# Altium schematic symbol library WE-XTAL.SchLib: 324 symbols (part 5 of 6)
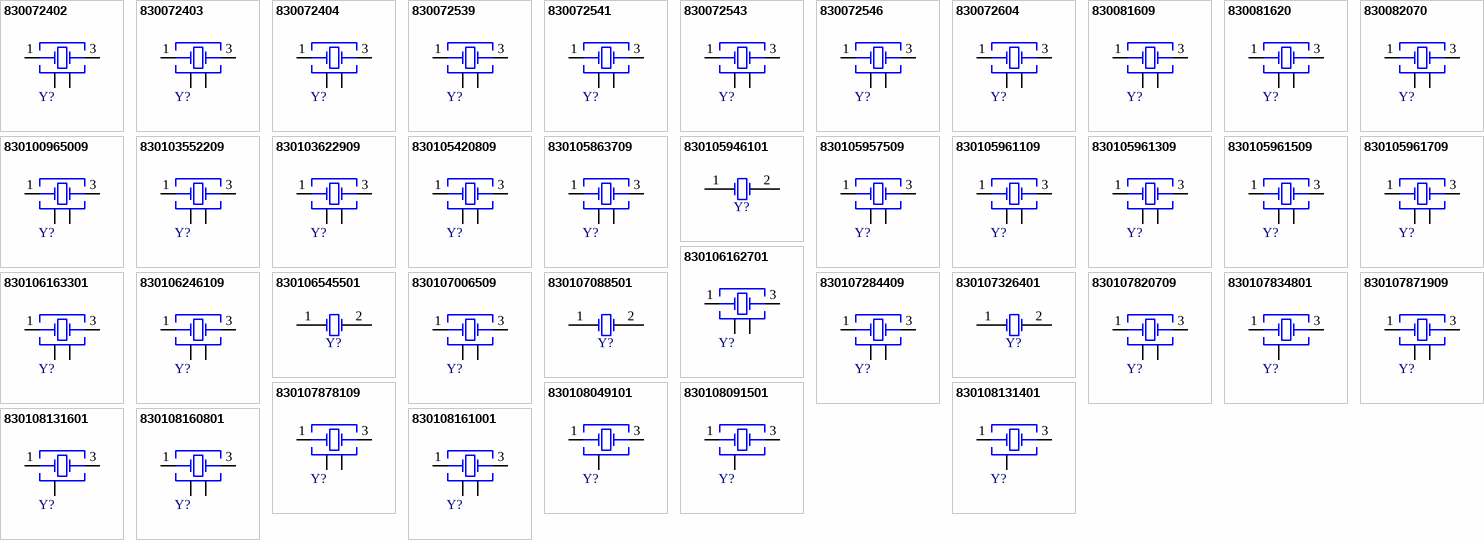
[diagram p12: symbols 830072402 to 830108161001]

## 830072539
designator Y?, comment 24MHz  (value not drawn)
WE-XTAL Quartz Crystal, SMT, IQXC-26, 24MHz, +/-15ppm; Manufacturer Part Number: 830072539; Manufacturer: Wurth Elektronik; Load Capacitance: 8pF; ComponentLink1Description: Website Link; ComponentLink1URL: https://www.we-online.com/redexpert/article/830072539?ad; ComponentLink2Description: Datasheet Link; ComponentLink2URL: https://www.we-online.com/redexpert/spec/830072539?ad; Category: Crystals; Match Code: WE-XTAL; Mount: Surface Mount; Operating Temperature Max: 70°C; Operating Temperature Min: -20°C; Packaging: Tape and Reel; Case/Size Code: IQXC-26; Length: 1.6mm; Width: 1.2mm; Height: 0.4mm; Frequency: 24MHz; Frequency Stability: +/-15ppm; Frequency Tolerance: +/-15ppm
footprint WE-XTAL_IQXC-26
pins: 1 Crystal, 2 GND & Lid, 3 Crystal, 4 GND & Lid

## 830072541
designator Y?, comment 27MHz  (value not drawn)
WE-XTAL Quartz Crystal, SMT, IQXC-26, 27MHz, +/-15ppm; Manufacturer Part Number: 830072541; Manufacturer: Wurth Elektronik; Load Capacitance: 8pF; ComponentLink1Description: Website Link; ComponentLink1URL: https://www.we-online.com/redexpert/article/830072541?ad; ComponentLink2Description: Datasheet Link; ComponentLink2URL: https://www.we-online.com/redexpert/spec/830072541?ad; Category: Crystals; Match Code: WE-XTAL; Mount: Surface Mount; Operating Temperature Max: 70°C; Operating Temperature Min: -20°C; Packaging: Tape and Reel; Case/Size Code: IQXC-26; Length: 1.6mm; Width: 1.2mm; Height: 0.4mm; Frequency: 27MHz; Frequency Stability: +/-15ppm; Frequency Tolerance: +/-15ppm
footprint WE-XTAL_IQXC-26
pins: 1 Crystal, 2 GND & Lid, 3 Crystal, 4 GND & Lid

## 830072543
designator Y?, comment 27MHz  (value not drawn)
WE-XTAL Quartz Crystal, SMT, IQXC-42, 27MHz, +/-15ppm; Manufacturer Part Number: 830072543; Manufacturer: Wurth Elektronik; Frequency Stability: +/-20ppm; Load Capacitance: 10pF; ComponentLink1Description: Website Link; ComponentLink1URL: https://www.we-online.com/redexpert/article/830072543?ad; ComponentLink2Description: Datasheet Link; ComponentLink2URL: https://www.we-online.com/redexpert/spec/830072543?ad; Category: Crystals; Match Code: WE-XTAL; Mount: Surface Mount; Operating Temperature Max: 85°C; Operating Temperature Min: -40°C; Packaging: Tape and Reel; Case/Size Code: IQXC-42; Length: 2mm; Width: 1.6mm; Height: 0.5mm; Frequency: 27MHz; Frequency Tolerance: +/-15ppm
footprint WE-XTAL_IQXC-42
pins: 1 Crystal, 2 GND, 3 Crystal, 4 GND

## 830072546
designator Y?, comment 48MHz  (value not drawn)
WE-XTAL Quartz Crystal, SMT, IQXC-42, 48MHz, +/-15ppm; Manufacturer Part Number: 830072546; Manufacturer: Wurth Elektronik; Frequency Stability: +/-20ppm; Load Capacitance: 10pF; ComponentLink1Description: Website Link; ComponentLink1URL: https://www.we-online.com/redexpert/article/830072546?ad; ComponentLink2Description: Datasheet Link; ComponentLink2URL: https://www.we-online.com/redexpert/spec/830072546?ad; Category: Crystals; Match Code: WE-XTAL; Mount: Surface Mount; Operating Temperature Max: 85°C; Operating Temperature Min: -40°C; Packaging: Tape and Reel; Case/Size Code: IQXC-42; Length: 2mm; Width: 1.6mm; Height: 0.5mm; Frequency: 48MHz; Frequency Tolerance: +/-15ppm
footprint WE-XTAL_IQXC-42
pins: 1 Crystal, 2 GND, 3 Crystal, 4 GND

## 830072604
designator Y?, comment 25MHz  (value not drawn)
WE-XTAL Quartz Crystal, SMT, CFPX-180, 25MHz, +/-10ppm; Manufacturer Part Number: 830072604; Manufacturer: Wurth Elektronik; Frequency Stability: +/-20ppm; Load Capacitance: 8pF; ComponentLink1Description: Website Link; ComponentLink1URL: https://www.we-online.com/redexpert/article/830072604?ad; ComponentLink2Description: Datasheet Link; ComponentLink2URL: https://www.we-online.com/redexpert/spec/830072604?ad; Category: Crystals; Match Code: WE-XTAL; Mount: Surface Mount; Operating Temperature Max: 85°C; Operating Temperature Min: -40°C; Packaging: Tape and Reel; Case/Size Code: CFPX-180; Length: 3.4mm; Width: 2.7mm; Height: 0.8mm; Frequency: 25MHz; Frequency Tolerance: +/-10ppm
footprint WE-XTAL_CFPX-180
pins: 1 Crystal, 2 GND&Lid, 3 Crystal, 4 GND&Lid

## 830081609
designator Y?, comment 25MHz  (value not drawn)
WE-XTAL Quartz Crystal, SMT, IQXC-26, 25MHz, +/-10ppm; Manufacturer Part Number: 830081609; Manufacturer: Wurth Elektronik; Frequency Stability: +/-20ppm; Load Capacitance: 8pF; ComponentLink1Description: Website Link; ComponentLink1URL: https://www.we-online.com/redexpert/article/830081609?ad; ComponentLink2Description: Datasheet Link; ComponentLink2URL: https://www.we-online.com/redexpert/spec/830081609?ad; Category: Crystals; Match Code: WE-XTAL; Mount: Surface Mount; Operating Temperature Max: 85°C; Operating Temperature Min: -40°C; Packaging: Tape and Reel; Case/Size Code: IQXC-26; Length: 1.6mm; Width: 1.2mm; Height: 0.4mm; Frequency: 25MHz; Frequency Tolerance: +/-10ppm
footprint WE-XTAL_IQXC-26
pins: 1 Crystal, 2 GND & Lid, 3 Crystal, 4 GND & Lid

## 830081620
designator Y?, comment 48MHz  (value not drawn)
WE-XTAL Quartz Crystal, SMT, IQXC-26, 48MHz, +/-10ppm; Manufacturer Part Number: 830081620; Manufacturer: Wurth Elektronik; Frequency Stability: +/-20ppm; Load Capacitance: 8pF; ComponentLink1Description: Website Link; ComponentLink1URL: https://www.we-online.com/redexpert/article/830081620?ad; ComponentLink2Description: Datasheet Link; ComponentLink2URL: https://www.we-online.com/redexpert/spec/830081620?ad; Category: Crystals; Match Code: WE-XTAL; Mount: Surface Mount; Operating Temperature Max: 85°C; Operating Temperature Min: -40°C; Packaging: Tape and Reel; Case/Size Code: IQXC-26; Length: 1.6mm; Width: 1.2mm; Height: 0.4mm; Frequency: 48MHz; Frequency Tolerance: +/-10ppm
footprint WE-XTAL_IQXC-26
pins: 1 Crystal, 2 GND & Lid, 3 Crystal, 4 GND & Lid

## 830082070
designator Y?, comment 13.56MHz  (value not drawn)
WE-XTAL Quartz Crystal, SMT, CFPX-180, 13.56MHz, +/-10ppm; Manufacturer Part Number: 830082070; Manufacturer: Wurth Elektronik; Frequency Stability: +/-20ppm; Load Capacitance: 8pF; ComponentLink1Description: Website Link; ComponentLink1URL: https://www.we-online.com/redexpert/article/830082070?ad; ComponentLink2Description: Datasheet Link; ComponentLink2URL: https://www.we-online.com/redexpert/spec/830082070?ad; Category: Crystals; Match Code: WE-XTAL; Mount: Surface Mount; Operating Temperature Max: 85°C; Operating Temperature Min: -40°C; Packaging: Tape and Reel; Case/Size Code: CFPX-180; Length: 3.4mm; Width: 2.7mm; Height: 0.8mm; Frequency: 13.56MHz; Frequency Tolerance: +/-10ppm
footprint WE-XTAL_CFPX-180
pins: 1 Crystal, 2 GND&Lid, 3 Crystal, 4 GND&Lid

## 830100965009
designator Y?, comment 16MHz  (value not drawn)
WE-XTAL Quartz Crystal, SMT, CFPX-180, 16MHz, +/-10ppm; Manufacturer Part Number: 830100965009; Manufacturer: Wurth Elektronik; Frequency Stability: +/-20ppm; Load Capacitance: 16pF; ComponentLink1Description: Website Link; ComponentLink1URL: https://www.we-online.com/redexpert/article/830100965009?ad; ComponentLink2Description: Datasheet Link; ComponentLink2URL: https://www.we-online.com/redexpert/spec/830100965009?ad; Category: Crystals; Match Code: WE-XTAL; Mount: Surface Mount; Operating Temperature Max: 85°C; Operating Temperature Min: -40°C; Packaging: Tape and Reel; Case/Size Code: CFPX-180; Length: 3.4mm; Width: 2.7mm; Height: 0.8mm; Frequency: 16MHz; Frequency Tolerance: +/-10ppm
footprint WE-XTAL_CFPX-180
pins: 1 Crystal, 2 GND&Lid, 3 Crystal, 4 GND&Lid

## 830103552209
designator Y?, comment 32MHz  (value not drawn)
WE-XTAL Quartz Crystal, SMT, CFPX-180, 32MHz, +/-10ppm; Manufacturer Part Number: 830103552209; Manufacturer: Wurth Elektronik; Frequency Stability: +/-20ppm; Load Capacitance: 9pF; ComponentLink1Description: Website Link; ComponentLink1URL: https://www.we-online.com/redexpert/article/830103552209?ad; ComponentLink2Description: Datasheet Link; ComponentLink2URL: https://www.we-online.com/redexpert/spec/830103552209?ad; Category: Crystals; Match Code: WE-XTAL; Mount: Surface Mount; Operating Temperature Max: 85°C; Operating Temperature Min: -40°C; Packaging: Tape and Reel; Case/Size Code: CFPX-180; Length: 3.4mm; Width: 2.7mm; Height: 0.8mm; Frequency: 32MHz; Frequency Tolerance: +/-10ppm
footprint WE-XTAL_CFPX-180
pins: 1 Crystal, 2 GND&Lid, 3 Crystal, 4 GND&Lid

## 830103622909
designator Y?, comment 32MHz  (value not drawn)
WE-XTAL Quartz Crystal, SMT, CFPX-180, 32MHz, +/-10ppm; Manufacturer Part Number: 830103622909; Manufacturer: Wurth Elektronik; Frequency Stability: +/-15ppm; Load Capacitance: 9pF; ComponentLink1Description: Website Link; ComponentLink1URL: https://www.we-online.com/redexpert/article/830103622909?ad; ComponentLink2Description: Datasheet Link; ComponentLink2URL: https://www.we-online.com/redexpert/spec/830103622909?ad; Category: Crystals; Match Code: WE-XTAL; Mount: Surface Mount; Operating Temperature Max: 85°C; Operating Temperature Min: -40°C; Packaging: Tape and Reel; Case/Size Code: CFPX-180; Length: 3.4mm; Width: 2.7mm; Height: 0.8mm; Frequency: 32MHz; Frequency Tolerance: +/-10ppm
footprint WE-XTAL_CFPX-180
pins: 1 Crystal, 2 GND&Lid, 3 Crystal, 4 GND&Lid

## 830105420809
designator Y?, comment 12MHz  (value not drawn)
WE-XTAL Quartz Crystal, SMT, CFPX-180, 12MHz, +/-10ppm; Manufacturer Part Number: 830105420809; Manufacturer: Wurth Elektronik; Load Capacitance: 10pF; ComponentLink1Description: Website Link; ComponentLink1URL: https://www.we-online.com/redexpert/article/830105420809?ad; ComponentLink2Description: Datasheet Link; ComponentLink2URL: https://www.we-online.com/redexpert/spec/830105420809?ad; Category: Crystals; Match Code: WE-XTAL; Mount: Surface Mount; Operating Temperature Max: 70°C; Operating Temperature Min: -20°C; Packaging: Tape and Reel; Case/Size Code: CFPX-180; Length: 3.4mm; Width: 2.7mm; Height: 0.8mm; Frequency: 12MHz; Frequency Stability: +/-10ppm; Frequency Tolerance: +/-10ppm
footprint WE-XTAL_CFPX-180
pins: 1 Crystal, 2 GND&Lid, 3 Crystal, 4 GND&Lid

## 830105863709
designator Y?, comment 25MHz  (value not drawn)
WE-XTAL Quartz Crystal, SMT, CFPX-180, 25MHz, +/-30ppm; Manufacturer Part Number: 830105863709; Manufacturer: Wurth Elektronik; Load Capacitance: 12pF; ComponentLink1Description: Website Link; ComponentLink1URL: https://www.we-online.com/redexpert/article/830105863709?ad; ComponentLink2Description: Datasheet Link; ComponentLink2URL: https://www.we-online.com/redexpert/spec/830105863709?ad; Category: Crystals; Match Code: WE-XTAL; Mount: Surface Mount; Operating Temperature Max: 85°C; Operating Temperature Min: -40°C; Packaging: Tape and Reel; Case/Size Code: CFPX-180; Length: 3.4mm; Width: 2.7mm; Height: 0.8mm; Frequency: 25MHz; Frequency Stability: +/-30ppm; Frequency Tolerance: +/-30ppm
footprint WE-XTAL_CFPX-180
pins: 1 Crystal, 2 GND&Lid, 3 Crystal, 4 GND&Lid

## 830105946101
designator Y?, comment 32.768kHz  (value not drawn)
WE-XTAL Watch Crystal, SMT, IQXC-25, 32.768kHz, +/-20ppm; Manufacturer Part Number: 830105946101; Manufacturer: Wurth Elektronik; Load Capacitance: 7pF; ComponentLink1Description: Website Link; ComponentLink1URL: https://www.we-online.com/redexpert/article/830105946101?ad; ComponentLink2Description: Datasheet Link; ComponentLink2URL: https://www.we-online.com/redexpert/spec/830105946101?ad; Category: Crystals; Match Code: WE-XTAL; Mount: Surface Mount; Operating Temperature Max: 85°C; Operating Temperature Min: -40°C; Packaging: Tape and Reel; Case/Size Code: IQXC-25; Length: 2mm; Width: 1.2mm; Height: 0.6mm; Frequency: 32.768kHz; Frequency Tolerance: +/-20ppm
footprint WE-XTAL_IQXC-25
pins: 1 OSC1, 2 OSC2

## 830105957509
designator Y?, comment 24.576MHz  (value not drawn)
WE-XTAL Quartz Crystal, SMT, CFPX-180, 24.576MHz, +/-20ppm; Manufacturer Part Number: 830105957509; Manufacturer: Wurth Elektronik; Frequency Stability: +/-30ppm; Load Capacitance: 18pF; ComponentLink1Description: Website Link; ComponentLink1URL: https://www.we-online.com/redexpert/article/830105957509?ad; ComponentLink2Description: Datasheet Link; ComponentLink2URL: https://www.we-online.com/redexpert/spec/830105957509?ad; Category: Crystals; Match Code: WE-XTAL; Mount: Surface Mount; Operating Temperature Max: 85°C; Operating Temperature Min: -40°C; Packaging: Tape and Reel; Case/Size Code: CFPX-180; Length: 3.4mm; Width: 2.7mm; Height: 0.8mm; Frequency: 24.576MHz; Frequency Tolerance: +/-20ppm
footprint WE-XTAL_CFPX-180
pins: 1 Crystal, 2 GND&Lid, 3 Crystal, 4 GND&Lid

## 830105961109
designator Y?, comment 13.56MHz  (value not drawn)
WE-XTAL Quartz Crystal, SMT, CFPX-180, 13.56MHz, +/-20ppm; Manufacturer Part Number: 830105961109; Manufacturer: Wurth Elektronik; Frequency Stability: +/-30ppm; Load Capacitance: 18pF; ComponentLink1Description: Website Link; ComponentLink1URL: https://www.we-online.com/redexpert/article/830105961109?ad; ComponentLink2Description: Datasheet Link; ComponentLink2URL: https://www.we-online.com/redexpert/spec/830105961109?ad; Category: Crystals; Match Code: WE-XTAL; Mount: Surface Mount; Operating Temperature Max: 85°C; Operating Temperature Min: -40°C; Packaging: Tape and Reel; Case/Size Code: CFPX-180; Length: 3.4mm; Width: 2.7mm; Height: 0.8mm; Frequency: 13.56MHz; Frequency Tolerance: +/-20ppm
footprint WE-XTAL_CFPX-180
pins: 1 Crystal, 2 GND&Lid, 3 Crystal, 4 GND&Lid

## 830105961309
designator Y?, comment 14.31818MHz  (value not drawn)
WE-XTAL Quartz Crystal, SMT, CFPX-180, 14.31818MHz, +/-20ppm; Manufacturer Part Number: 830105961309; Manufacturer: Wurth Elektronik; Frequency Stability: +/-30ppm; Load Capacitance: 18pF; ComponentLink1Description: Website Link; ComponentLink1URL: https://www.we-online.com/redexpert/article/830105961309?ad; ComponentLink2Description: Datasheet Link; ComponentLink2URL: https://www.we-online.com/redexpert/spec/830105961309?ad; Category: Crystals; Match Code: WE-XTAL; Mount: Surface Mount; Operating Temperature Max: 85°C; Operating Temperature Min: -40°C; Packaging: Tape and Reel; Case/Size Code: CFPX-180; Length: 3.4mm; Width: 2.7mm; Height: 0.8mm; Frequency: 14.31818MHz; Frequency Tolerance: +/-20ppm
footprint WE-XTAL_CFPX-180
pins: 1 Crystal, 2 GND&Lid, 3 Crystal, 4 GND&Lid

## 830105961509
designator Y?, comment 16.384MHz  (value not drawn)
WE-XTAL Quartz Crystal, SMT, CFPX-180, 16.384MHz, +/-20ppm; Manufacturer Part Number: 830105961509; Manufacturer: Wurth Elektronik; Frequency Stability: +/-30ppm; Load Capacitance: 18pF; ComponentLink1Description: Website Link; ComponentLink1URL: https://www.we-online.com/redexpert/article/830105961509?ad; ComponentLink2Description: Datasheet Link; ComponentLink2URL: https://www.we-online.com/redexpert/spec/830105961509?ad; Category: Crystals; Match Code: WE-XTAL; Mount: Surface Mount; Operating Temperature Max: 85°C; Operating Temperature Min: -40°C; Packaging: Tape and Reel; Case/Size Code: CFPX-180; Length: 3.4mm; Width: 2.7mm; Height: 0.8mm; Frequency: 16.384MHz; Frequency Tolerance: +/-20ppm
footprint WE-XTAL_CFPX-180
pins: 1 Crystal, 2 GND&Lid, 3 Crystal, 4 GND&Lid

## 830105961709
designator Y?, comment 18.432MHz  (value not drawn)
WE-XTAL Quartz Crystal, SMT, CFPX-180, 18.432MHz, +/-20ppm; Manufacturer Part Number: 830105961709; Manufacturer: Wurth Elektronik; Frequency Stability: +/-30ppm; Load Capacitance: 18pF; ComponentLink1Description: Website Link; ComponentLink1URL: https://www.we-online.com/redexpert/article/830105961709?ad; ComponentLink2Description: Datasheet Link; ComponentLink2URL: https://www.we-online.com/redexpert/spec/830105961709?ad; Category: Crystals; Match Code: WE-XTAL; Mount: Surface Mount; Operating Temperature Max: 85°C; Operating Temperature Min: -40°C; Packaging: Tape and Reel; Case/Size Code: CFPX-180; Length: 3.4mm; Width: 2.7mm; Height: 0.8mm; Frequency: 18.432MHz; Frequency Tolerance: +/-20ppm
footprint WE-XTAL_CFPX-180
pins: 1 Crystal, 2 GND&Lid, 3 Crystal, 4 GND&Lid

## 830106162701
designator Y?, comment 8MHz  (value not drawn)
WE-XTAL Quartz Crystal, SMT, CFPX-104, 8MHz, +/-20ppm; Manufacturer Part Number: 830106162701; Manufacturer: Wurth Elektronik; Frequency Stability: +/-30ppm; Load Capacitance: 16pF; ComponentLink1Description: Website Link; ComponentLink1URL: https://www.we-online.com/redexpert/article/830106162701?ad; ComponentLink2Description: Datasheet Link; ComponentLink2URL: https://www.we-online.com/redexpert/spec/830106162701?ad; Category: Crystals; Match Code: WE-XTAL; Mount: Surface Mount; Operating Temperature Max: 85°C; Operating Temperature Min: -40°C; Packaging: Tape and Reel; Case/Size Code: CFPX-104; Length: 5mm; Width: 3.2mm; Height: 1mm; Frequency: 8MHz; Frequency Tolerance: +/-20ppm
footprint WE-XTAL_CFPX-104
pins: 1 Crystal, 2 GND & Lid, 3 Crystal, 4 GND & Lid

## 830106163301
designator Y?, comment 13.56MHz  (value not drawn)
WE-XTAL Quartz Crystal, SMT, CFPX-104, 13.56MHz, +/-20ppm; Manufacturer Part Number: 830106163301; Manufacturer: Wurth Elektronik; Frequency Stability: +/-30ppm; Load Capacitance: 16pF; ComponentLink1Description: Website Link; ComponentLink1URL: https://www.we-online.com/redexpert/article/830106163301?ad; ComponentLink2Description: Datasheet Link; ComponentLink2URL: https://www.we-online.com/redexpert/spec/830106163301?ad; Category: Crystals; Match Code: WE-XTAL; Mount: Surface Mount; Operating Temperature Max: 85°C; Operating Temperature Min: -40°C; Packaging: Tape and Reel; Case/Size Code: CFPX-104; Length: 5mm; Width: 3.2mm; Height: 1mm; Frequency: 13.56MHz; Frequency Tolerance: +/-20ppm
footprint WE-XTAL_CFPX-104
pins: 1 Crystal, 2 GND & Lid, 3 Crystal, 4 GND & Lid

## 830106246109
designator Y?, comment 27.12MHz  (value not drawn)
WE-XTAL Quartz Crystal, SMT, CFPX-180, 27.12MHz, +/-10ppm; Manufacturer Part Number: 830106246109; Manufacturer: Wurth Elektronik; Frequency Stability: +/-20ppm; Load Capacitance: 10pF; ComponentLink1Description: Website Link; ComponentLink1URL: https://www.we-online.com/redexpert/article/830106246109?ad; ComponentLink2Description: Datasheet Link; ComponentLink2URL: https://www.we-online.com/redexpert/spec/830106246109?ad; Category: Crystals; Match Code: WE-XTAL; Mount: Surface Mount; Operating Temperature Max: 85°C; Operating Temperature Min: -40°C; Packaging: Tape and Reel; Case/Size Code: CFPX-180; Length: 3.4mm; Width: 2.7mm; Height: 0.8mm; Frequency: 27.12MHz; Frequency Tolerance: +/-10ppm
footprint WE-XTAL_CFPX-180
pins: 1 Crystal, 2 GND&Lid, 3 Crystal, 4 GND&Lid

## 830106545501
designator Y?, comment 32.768kHz  (value not drawn)
WE-XTAL Watch Crystal, SMT, IQXC-25, 32.768kHz, +/-20ppm; Manufacturer Part Number: 830106545501; Manufacturer: Wurth Elektronik; Load Capacitance: 6pF; ComponentLink1Description: Website Link; ComponentLink1URL: https://www.we-online.com/redexpert/article/830106545501?ad; ComponentLink2Description: Datasheet Link; ComponentLink2URL: https://www.we-online.com/redexpert/spec/830106545501?ad; Category: Crystals; Match Code: WE-XTAL; Mount: Surface Mount; Operating Temperature Max: 85°C; Operating Temperature Min: -40°C; Packaging: Tape and Reel; Case/Size Code: IQXC-25; Length: 2mm; Width: 1.2mm; Height: 0.6mm; Frequency: 32.768kHz; Frequency Tolerance: +/-20ppm
footprint WE-XTAL_IQXC-25
pins: 1 OSC1, 2 OSC2

## 830107006509
designator Y?, comment 24MHz  (value not drawn)
WE-XTAL Quartz Crystal, SMT, CFPX-180, 24MHz, +/-10ppm; Manufacturer Part Number: 830107006509; Manufacturer: Wurth Elektronik; Frequency Stability: +/-15ppm; Load Capacitance: 9pF; ComponentLink1Description: Website Link; ComponentLink1URL: https://www.we-online.com/redexpert/article/830107006509?ad; ComponentLink2Description: Datasheet Link; ComponentLink2URL: https://www.we-online.com/redexpert/spec/830107006509?ad; Category: Crystals; Match Code: WE-XTAL; Mount: Surface Mount; Operating Temperature Max: 85°C; Operating Temperature Min: -40°C; Packaging: Tape and Reel; Case/Size Code: CFPX-180; Length: 3.4mm; Width: 2.7mm; Height: 0.8mm; Frequency: 24MHz; Frequency Tolerance: +/-10ppm
footprint WE-XTAL_CFPX-180
pins: 1 Crystal, 2 GND&Lid, 3 Crystal, 4 GND&Lid

## 830107088501
designator Y?, comment 32.768kHz  (value not drawn)
WE-XTAL Watch Crystal, SMT, IQXC-90, 32.768kHz, +/-20ppm; Manufacturer Part Number: 830107088501; Manufacturer: Wurth Elektronik; Load Capacitance: 6pF; ComponentLink1Description: Website Link; ComponentLink1URL: https://www.we-online.com/redexpert/article/830107088501?ad; ComponentLink2Description: Datasheet Link; ComponentLink2URL: https://www.we-online.com/redexpert/spec/830107088501?ad; Category: Crystals; Match Code: WE-XTAL; Mount: Surface Mount; Operating Temperature Max: 85°C; Operating Temperature Min: -40°C; Packaging: Tape and Reel; Case/Size Code: IQXC-90; Length: 1.6mm; Width: 1mm; Height: 0.5mm; Frequency: 32.768kHz; Frequency Tolerance: +/-20ppm
footprint WE-XTAL_IQXC-90
pins: 1 OSC1, 2 OSC2

## 830107284409
designator Y?, comment 30MHz  (value not drawn)
WE-XTAL Quartz Crystal, SMT, CFPX-218, 30MHz, +/-10ppm; Manufacturer Part Number: 830107284409; Manufacturer: Wurth Elektronik; Load Capacitance: 10pF; ComponentLink1Description: Website Link; ComponentLink1URL: https://www.we-online.com/redexpert/article/830107284409?ad; ComponentLink2Description: Datasheet Link; ComponentLink2URL: https://www.we-online.com/redexpert/spec/830107284409?ad; Category: Crystals; Match Code: WE-XTAL; Mount: Surface Mount; Operating Temperature Max: 70°C; Operating Temperature Min: -20°C; Packaging: Tape and Reel; Case/Size Code: CFPX-218; Length: 2.5mm; Width: 2mm; Height: 0.6mm; Frequency: 30MHz; Frequency Stability: +/-10ppm; Frequency Tolerance: +/-10ppm
footprint WE-XTAL_CFPX-218
pins: 1 Crystal, 2 GND, 3 Crystal, 4 GND

## 830107326401
designator Y?, comment 32.768kHz  (value not drawn)
WE-XTAL Watch Crystal, SMT, IQXC-25, 32.768kHz, +/-20ppm; Manufacturer Part Number: 830107326401; Manufacturer: Wurth Elektronik; Load Capacitance: 4pF; ComponentLink1Description: Website Link; ComponentLink1URL: https://www.we-online.com/redexpert/article/830107326401?ad; ComponentLink2Description: Datasheet Link; ComponentLink2URL: https://www.we-online.com/redexpert/spec/830107326401?ad; Category: Crystals; Match Code: WE-XTAL; Mount: Surface Mount; Operating Temperature Max: 85°C; Operating Temperature Min: -40°C; Packaging: Tape and Reel; Case/Size Code: IQXC-25; Length: 2mm; Width: 1.2mm; Height: 0.6mm; Frequency: 32.768kHz; Frequency Tolerance: +/-20ppm
footprint WE-XTAL_IQXC-25
pins: 1 OSC1, 2 OSC2

## 830107820709
designator Y?, comment 32MHz  (value not drawn)
WE-XTAL Quartz Crystal, SMT, CFPX-218, 32MHz, +/-10ppm; Manufacturer Part Number: 830107820709; Manufacturer: Wurth Elektronik; Load Capacitance: 10pF; ComponentLink1Description: Website Link; ComponentLink1URL: https://www.we-online.com/redexpert/article/830107820709?ad; ComponentLink2Description: Datasheet Link; ComponentLink2URL: https://www.we-online.com/redexpert/spec/830107820709?ad; Category: Crystals; Match Code: WE-XTAL; Mount: Surface Mount; Operating Temperature Max: 70°C; Operating Temperature Min: -20°C; Packaging: Tape and Reel; Case/Size Code: CFPX-218; Length: 2.5mm; Width: 2mm; Height: 0.6mm; Frequency: 32MHz; Frequency Stability: +/-10ppm; Frequency Tolerance: +/-10ppm
footprint WE-XTAL_CFPX-218
pins: 1 Crystal, 2 GND, 3 Crystal, 4 GND

## 830107834801
designator Y?, comment 32.768kHz  (value not drawn)
WE-XTAL Watch Crystal, SMT, IQXC-146, 32.768kHz, +/-20ppm; Manufacturer Part Number: 830107834801; Manufacturer: Wurth Elektronik; Load Capacitance: 6pF; ComponentLink1Description: Website Link; ComponentLink1URL: https://www.we-online.com/redexpert/article/830107834801?ad; ComponentLink2Description: Datasheet Link; ComponentLink2URL: https://www.we-online.com/redexpert/spec/830107834801?ad; Category: Crystals; Match Code: WE-XTAL; Mount: Surface Mount; Operating Temperature Max: 85°C; Operating Temperature Min: -40°C; Packaging: Tape and Reel; Case/Size Code: IQXC-146; Length: 1.27mm; Width: 1.05mm; Height: 0.5mm; Frequency: 32.768kHz; Frequency Tolerance: +/-20ppm
footprint WE-XTAL_IQXC-146
pins: 1 Crystal, 2 GND, 3 Crystal

## 830107871909
designator Y?, comment 25MHz  (value not drawn)
WE-XTAL Quartz Crystal, SMT, CFPX-218, 25MHz, +/-10ppm; Manufacturer Part Number: 830107871909; Manufacturer: Wurth Elektronik; Load Capacitance: 10pF; ComponentLink1Description: Website Link; ComponentLink1URL: https://www.we-online.com/redexpert/article/830107871909?ad; ComponentLink2Description: Datasheet Link; ComponentLink2URL: https://www.we-online.com/redexpert/spec/830107871909?ad; Category: Crystals; Match Code: WE-XTAL; Mount: Surface Mount; Operating Temperature Max: 70°C; Operating Temperature Min: -20°C; Packaging: Tape and Reel; Case/Size Code: CFPX-218; Length: 2.5mm; Width: 2mm; Height: 0.6mm; Frequency: 25MHz; Frequency Stability: +/-10ppm; Frequency Tolerance: +/-10ppm
footprint WE-XTAL_CFPX-218
pins: 1 Crystal, 2 GND, 3 Crystal, 4 GND

## 830107878109
designator Y?, comment 16MHz  (value not drawn)
WE-XTAL Quartz Crystal, SMT, CFPX-180, 16MHz, +/-30ppm; Manufacturer Part Number: 830107878109; Manufacturer: Wurth Elektronik; Frequency Stability: +/-50ppm; Load Capacitance: 12pF; ComponentLink1Description: Website Link; ComponentLink1URL: https://www.we-online.com/redexpert/article/830107878109?ad; ComponentLink2Description: Datasheet Link; ComponentLink2URL: https://www.we-online.com/redexpert/spec/830107878109?ad; Category: Crystals; Match Code: WE-XTAL; Mount: Surface Mount; Operating Temperature Max: 125°C; Operating Temperature Min: -40°C; Packaging: Tape and Reel; Case/Size Code: CFPX-180; Length: 3.4mm; Width: 2.7mm; Height: 0.8mm; Frequency: 16MHz; Frequency Tolerance: +/-30ppm
footprint WE-XTAL_CFPX-180
pins: 1 Crystal, 2 GND&Lid, 3 Crystal, 4 GND&Lid

## 830108049101
designator Y?, comment 48MHz  (value not drawn)
WE-XTAL Quartz Crystal, SMT, IQXC-240, 48MHz, +/-10ppm; Manufacturer Part Number: 830108049101; Manufacturer: Wurth Elektronik; Load Capacitance: 8pF; ComponentLink1Description: Website Link; ComponentLink1URL: https://www.we-online.com/redexpert/article/830108049101?ad; ComponentLink2Description: Datasheet Link; ComponentLink2URL: https://www.we-online.com/redexpert/spec/830108049101?ad; Category: Crystals; Match Code: WE-XTAL; Mount: Surface Mount; Operating Temperature Max: 85°C; Operating Temperature Min: -30°C; Packaging: Tape and Reel; Case/Size Code: IQXC-240; Length: 1.2mm; Width: 1mm; Height: 0.33mm; Frequency: 48MHz; Frequency Stability: +/-10ppm; Frequency Tolerance: +/-10ppm
footprint WE-XTAL_IQXC-240
pins: 1 Crystal, 2 GND, 3 Crystal

## 830108091501
designator Y?, comment 32.768kHz  (value not drawn)
WE-XTAL Watch Crystal, SMT, IQXC-146, 32.768kHz, +/-20ppm; Manufacturer Part Number: 830108091501; Manufacturer: Wurth Elektronik; Load Capacitance: 12.5pF; ComponentLink1Description: Website Link; ComponentLink1URL: https://www.we-online.com/redexpert/article/830108091501?ad; ComponentLink2Description: Datasheet Link; ComponentLink2URL: https://www.we-online.com/redexpert/spec/830108091501?ad; Category: Crystals; Match Code: WE-XTAL; Mount: Surface Mount; Operating Temperature Max: 85°C; Operating Temperature Min: -40°C; Packaging: Tape and Reel; Case/Size Code: IQXC-146; Length: 1.27mm; Width: 1.05mm; Height: 0.5mm; Frequency: 32.768kHz; Frequency Tolerance: +/-20ppm
footprint WE-XTAL_IQXC-146
pins: 1 Crystal, 2 GND, 3 Crystal

## 830108131401
designator Y?, comment 37.4MHz  (value not drawn)
WE-XTAL Quartz Crystal, SMT, IQXC-240, 37.4MHz, +/-7ppm; Manufacturer Part Number: 830108131401; Manufacturer: Wurth Elektronik; Frequency Stability: +/-15ppm; Load Capacitance: 5pF; ComponentLink1Description: Website Link; ComponentLink1URL: https://www.we-online.com/redexpert/article/830108131401?ad; ComponentLink2Description: Datasheet Link; ComponentLink2URL: https://www.we-online.com/redexpert/spec/830108131401?ad; Category: Crystals; Match Code: WE-XTAL; Mount: Surface Mount; Operating Temperature Max: 85°C; Operating Temperature Min: -30°C; Packaging: Tape and Reel; Case/Size Code: IQXC-240; Length: 1.2mm; Width: 1mm; Height: 0.33mm; Frequency: 37.4MHz; Frequency Tolerance: +/-7ppm
footprint WE-XTAL_IQXC-240
pins: 1 Crystal, 2 GND, 3 Crystal

## 830108131601
designator Y?, comment 38.4MHz  (value not drawn)
WE-XTAL Quartz Crystal, SMT, IQXC-240, 38.4MHz, +/-7ppm; Manufacturer Part Number: 830108131601; Manufacturer: Wurth Elektronik; Frequency Stability: +/-15ppm; Load Capacitance: 5pF; ComponentLink1Description: Website Link; ComponentLink1URL: https://www.we-online.com/redexpert/article/830108131601?ad; ComponentLink2Description: Datasheet Link; ComponentLink2URL: https://www.we-online.com/redexpert/spec/830108131601?ad; Category: Crystals; Match Code: WE-XTAL; Mount: Surface Mount; Operating Temperature Max: 85°C; Operating Temperature Min: -30°C; Packaging: Tape and Reel; Case/Size Code: IQXC-240; Length: 1.2mm; Width: 1mm; Height: 0.33mm; Frequency: 38.4MHz; Frequency Tolerance: +/-7ppm
footprint WE-XTAL_IQXC-240
pins: 1 Crystal, 2 GND, 3 Crystal

## 830108160801
designator Y?, comment 24MHz  (value not drawn)
WE-XTAL Quartz Crystal, SMT, IQXC-26, 24MHz, +/-10ppm; Manufacturer Part Number: 830108160801; Manufacturer: Wurth Elektronik; Frequency Stability: +/-20ppm; Load Capacitance: 8pF; ComponentLink1Description: Website Link; ComponentLink1URL: https://www.we-online.com/redexpert/article/830108160801?ad; ComponentLink2Description: Datasheet Link; ComponentLink2URL: https://www.we-online.com/redexpert/spec/830108160801?ad; Category: Crystals; Match Code: WE-XTAL; Mount: Surface Mount; Operating Temperature Max: 85°C; Operating Temperature Min: -40°C; Packaging: Tape and Reel; Case/Size Code: IQXC-26; Length: 1.6mm; Width: 1.2mm; Height: 0.4mm; Frequency: 24MHz; Frequency Tolerance: +/-10ppm
footprint WE-XTAL_IQXC-26
pins: 1 Crystal, 2 GND & Lid, 3 Crystal, 4 GND & Lid

## 830108161001
designator Y?, comment 27MHz  (value not drawn)
WE-XTAL Quartz Crystal, SMT, IQXC-26, 27MHz, +/-10ppm; Manufacturer Part Number: 830108161001; Manufacturer: Wurth Elektronik; Frequency Stability: +/-20ppm; Load Capacitance: 8pF; ComponentLink1Description: Website Link; ComponentLink1URL: https://www.we-online.com/redexpert/article/830108161001?ad; ComponentLink2Description: Datasheet Link; ComponentLink2URL: https://www.we-online.com/redexpert/spec/830108161001?ad; Category: Crystals; Match Code: WE-XTAL; Mount: Surface Mount; Operating Temperature Max: 85°C; Operating Temperature Min: -40°C; Packaging: Tape and Reel; Case/Size Code: IQXC-26; Length: 1.6mm; Width: 1.2mm; Height: 0.4mm; Frequency: 27MHz; Frequency Tolerance: +/-10ppm
footprint WE-XTAL_IQXC-26
pins: 1 Crystal, 2 GND & Lid, 3 Crystal, 4 GND & Lid

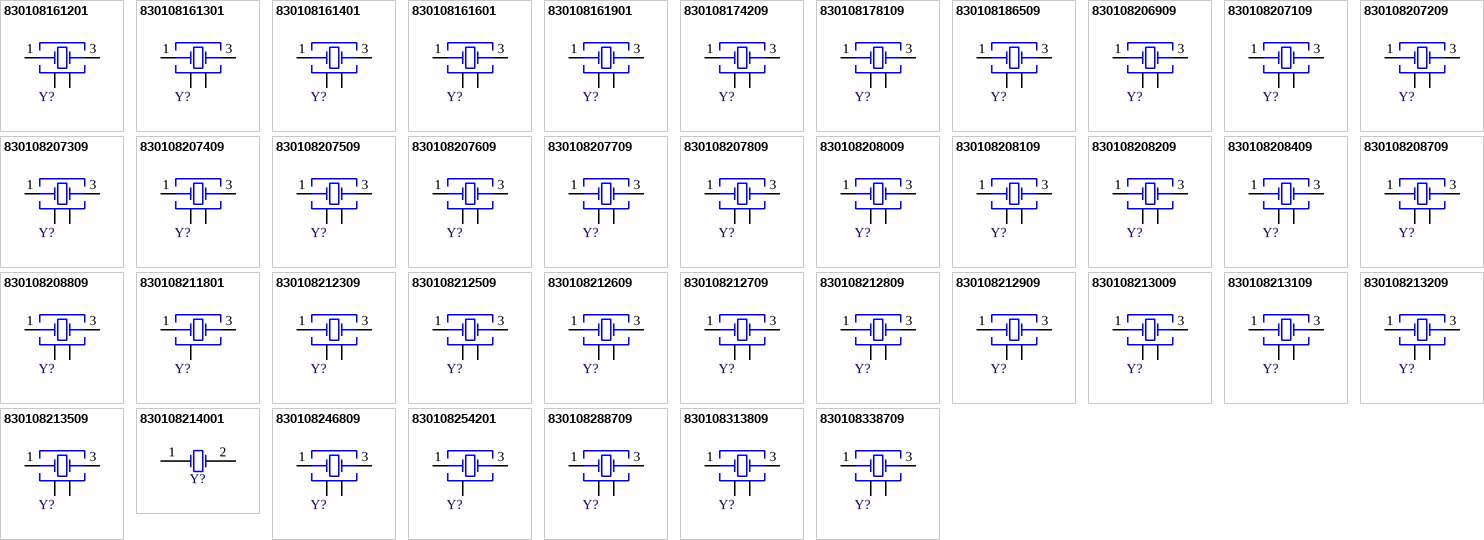
[diagram p7: symbols 830108161201 to 830108338709]

## 830108161201
designator Y?, comment 30MHz  (value not drawn)
WE-XTAL Quartz Crystal, SMT, IQXC-26, 30MHz, +/-10ppm; Manufacturer Part Number: 830108161201; Manufacturer: Wurth Elektronik; Frequency Stability: +/-20ppm; Load Capacitance: 8pF; ComponentLink1Description: Website Link; ComponentLink1URL: https://www.we-online.com/redexpert/article/830108161201?ad; ComponentLink2Description: Datasheet Link; ComponentLink2URL: https://www.we-online.com/redexpert/spec/830108161201?ad; Category: Crystals; Match Code: WE-XTAL; Mount: Surface Mount; Operating Temperature Max: 85°C; Operating Temperature Min: -40°C; Packaging: Tape and Reel; Case/Size Code: IQXC-26; Length: 1.6mm; Width: 1.2mm; Height: 0.4mm; Frequency: 30MHz; Frequency Tolerance: +/-10ppm
footprint WE-XTAL_IQXC-26
pins: 1 Crystal, 2 GND & Lid, 3 Crystal, 4 GND & Lid

## 830108161301
designator Y?, comment 32MHz  (value not drawn)
WE-XTAL Quartz Crystal, SMT, IQXC-26, 32MHz, +/-10ppm; Manufacturer Part Number: 830108161301; Manufacturer: Wurth Elektronik; Frequency Stability: +/-20ppm; Load Capacitance: 8pF; ComponentLink1Description: Website Link; ComponentLink1URL: https://www.we-online.com/redexpert/article/830108161301?ad; ComponentLink2Description: Datasheet Link; ComponentLink2URL: https://www.we-online.com/redexpert/spec/830108161301?ad; Category: Crystals; Match Code: WE-XTAL; Mount: Surface Mount; Operating Temperature Max: 85°C; Operating Temperature Min: -40°C; Packaging: Tape and Reel; Case/Size Code: IQXC-26; Length: 1.6mm; Width: 1.2mm; Height: 0.4mm; Frequency: 32MHz; Frequency Tolerance: +/-10ppm
footprint WE-XTAL_IQXC-26
pins: 1 Crystal, 2 GND & Lid, 3 Crystal, 4 GND & Lid

## 830108161401
designator Y?, comment 26MHz  (value not drawn)
WE-XTAL Quartz Crystal, SMT, IQXC-26, 26MHz, +/-10ppm; Manufacturer Part Number: 830108161401; Manufacturer: Wurth Elektronik; Frequency Stability: +/-20ppm; Load Capacitance: 8pF; ComponentLink1Description: Website Link; ComponentLink1URL: https://www.we-online.com/redexpert/article/830108161401?ad; ComponentLink2Description: Datasheet Link; ComponentLink2URL: https://www.we-online.com/redexpert/spec/830108161401?ad; Category: Crystals; Match Code: WE-XTAL; Mount: Surface Mount; Operating Temperature Max: 85°C; Operating Temperature Min: -40°C; Packaging: Tape and Reel; Case/Size Code: IQXC-26; Length: 1.6mm; Width: 1.2mm; Height: 0.4mm; Frequency: 26MHz; Frequency Tolerance: +/-10ppm
footprint WE-XTAL_IQXC-26
pins: 1 Crystal, 2 GND & Lid, 3 Crystal, 4 GND & Lid

## 830108161601
designator Y?, comment 37.4MHz  (value not drawn)
WE-XTAL Quartz Crystal, SMT, IQXC-26, 37.4MHz, +/-10ppm; Manufacturer Part Number: 830108161601; Manufacturer: Wurth Elektronik; Frequency Stability: +/-20ppm; Load Capacitance: 8pF; ComponentLink1Description: Website Link; ComponentLink1URL: https://www.we-online.com/redexpert/article/830108161601?ad; ComponentLink2Description: Datasheet Link; ComponentLink2URL: https://www.we-online.com/redexpert/spec/830108161601?ad; Category: Crystals; Match Code: WE-XTAL; Mount: Surface Mount; Operating Temperature Max: 85°C; Operating Temperature Min: -40°C; Packaging: Tape and Reel; Case/Size Code: IQXC-26; Length: 1.6mm; Width: 1.2mm; Height: 0.4mm; Frequency: 37.4MHz; Frequency Tolerance: +/-10ppm
footprint WE-XTAL_IQXC-26
pins: 1 Crystal, 2 GND & Lid, 3 Crystal, 4 GND & Lid

## 830108161901
designator Y?, comment 40MHz  (value not drawn)
WE-XTAL Quartz Crystal, SMT, IQXC-26, 40MHz, +/-10ppm; Manufacturer Part Number: 830108161901; Manufacturer: Wurth Elektronik; Frequency Stability: +/-20ppm; Load Capacitance: 8pF; ComponentLink1Description: Website Link; ComponentLink1URL: https://www.we-online.com/redexpert/article/830108161901?ad; ComponentLink2Description: Datasheet Link; ComponentLink2URL: https://www.we-online.com/redexpert/spec/830108161901?ad; Category: Crystals; Match Code: WE-XTAL; Mount: Surface Mount; Operating Temperature Max: 85°C; Operating Temperature Min: -40°C; Packaging: Tape and Reel; Case/Size Code: IQXC-26; Length: 1.6mm; Width: 1.2mm; Height: 0.4mm; Frequency: 40MHz; Frequency Tolerance: +/-10ppm
footprint WE-XTAL_IQXC-26
pins: 1 Crystal, 2 GND & Lid, 3 Crystal, 4 GND & Lid

## 830108174209
designator Y?, comment 25MHz  (value not drawn)
WE-XTAL Quartz Crystal, SMT, CFPX-180, 25MHz, +/-10ppm; Manufacturer Part Number: 830108174209; Manufacturer: Wurth Elektronik; Frequency Stability: +/-15ppm; Load Capacitance: 10pF; ComponentLink1Description: Website Link; ComponentLink1URL: https://www.we-online.com/redexpert/article/830108174209?ad; ComponentLink2Description: Datasheet Link; ComponentLink2URL: https://www.we-online.com/redexpert/spec/830108174209?ad; Category: Crystals; Match Code: WE-XTAL; Mount: Surface Mount; Operating Temperature Max: 85°C; Operating Temperature Min: -40°C; Packaging: Tape and Reel; Case/Size Code: CFPX-180; Length: 3.4mm; Width: 2.7mm; Height: 0.8mm; Frequency: 25MHz; Frequency Tolerance: +/-10ppm
footprint WE-XTAL_CFPX-180
pins: 1 Crystal, 2 GND&Lid, 3 Crystal, 4 GND&Lid

## 830108178109
designator Y?, comment 16MHz  (value not drawn)
WE-XTAL Quartz Crystal, SMT, IQXC-42, 16MHz, +/-10ppm; Manufacturer Part Number: 830108178109; Manufacturer: Wurth Elektronik; Frequency Stability: +/-20ppm; Load Capacitance: 8pF; ComponentLink1Description: Website Link; ComponentLink1URL: https://www.we-online.com/redexpert/article/830108178109?ad; ComponentLink2Description: Datasheet Link; ComponentLink2URL: https://www.we-online.com/redexpert/spec/830108178109?ad; Category: Crystals; Match Code: WE-XTAL; Mount: Surface Mount; Operating Temperature Max: 85°C; Operating Temperature Min: -40°C; Packaging: Tape and Reel; Case/Size Code: IQXC-42; Length: 2mm; Width: 1.6mm; Height: 0.5mm; Frequency: 16MHz; Frequency Tolerance: +/-10ppm
footprint WE-XTAL_IQXC-42
pins: 1 Crystal, 2 GND, 3 Crystal, 4 GND

## 830108186509
designator Y?, comment 26MHz  (value not drawn)
WE-XTAL Quartz Crystal, SMT, CFPX-218, 26MHz, +/-10ppm; Manufacturer Part Number: 830108186509; Manufacturer: Wurth Elektronik; Load Capacitance: 10pF; ComponentLink1Description: Website Link; ComponentLink1URL: https://www.we-online.com/redexpert/article/830108186509?ad; ComponentLink2Description: Datasheet Link; ComponentLink2URL: https://www.we-online.com/redexpert/spec/830108186509?ad; Category: Crystals; Match Code: WE-XTAL; Mount: Surface Mount; Operating Temperature Max: 70°C; Operating Temperature Min: -20°C; Packaging: Tape and Reel; Case/Size Code: CFPX-218; Length: 2.5mm; Width: 2mm; Height: 0.6mm; Frequency: 26MHz; Frequency Stability: +/-10ppm; Frequency Tolerance: +/-10ppm
footprint WE-XTAL_CFPX-218
pins: 1 Crystal, 2 GND, 3 Crystal, 4 GND

## 830108206909
designator Y?, comment 12MHz  (value not drawn)
WE-XTAL Quartz Crystal, SMT, CFPX-180, 12MHz, +/-10ppm; Manufacturer Part Number: 830108206909; Manufacturer: Wurth Elektronik; Frequency Stability: +/-20ppm; Load Capacitance: 8pF; ComponentLink1Description: Website Link; ComponentLink1URL: https://www.we-online.com/redexpert/article/830108206909?ad; ComponentLink2Description: Datasheet Link; ComponentLink2URL: https://www.we-online.com/redexpert/spec/830108206909?ad; Category: Crystals; Match Code: WE-XTAL; Mount: Surface Mount; Operating Temperature Max: 85°C; Operating Temperature Min: -40°C; Packaging: Tape and Reel; Case/Size Code: CFPX-180; Length: 3.4mm; Width: 2.7mm; Height: 0.8mm; Frequency: 12MHz; Frequency Tolerance: +/-10ppm
footprint WE-XTAL_CFPX-180
pins: 1 Crystal, 2 GND&Lid, 3 Crystal, 4 GND&Lid

## 830108207109
designator Y?, comment 16MHz  (value not drawn)
WE-XTAL Quartz Crystal, SMT, CFPX-180, 16MHz, +/-10ppm; Manufacturer Part Number: 830108207109; Manufacturer: Wurth Elektronik; Frequency Stability: +/-20ppm; Load Capacitance: 8pF; ComponentLink1Description: Website Link; ComponentLink1URL: https://www.we-online.com/redexpert/article/830108207109?ad; ComponentLink2Description: Datasheet Link; ComponentLink2URL: https://www.we-online.com/redexpert/spec/830108207109?ad; Category: Crystals; Match Code: WE-XTAL; Mount: Surface Mount; Operating Temperature Max: 85°C; Operating Temperature Min: -40°C; Packaging: Tape and Reel; Case/Size Code: CFPX-180; Length: 3.4mm; Width: 2.7mm; Height: 0.8mm; Frequency: 16MHz; Frequency Tolerance: +/-10ppm
footprint WE-XTAL_CFPX-180
pins: 1 Crystal, 2 GND&Lid, 3 Crystal, 4 GND&Lid

## 830108207209
designator Y?, comment 20MHz  (value not drawn)
WE-XTAL Quartz Crystal, SMT, CFPX-180, 20MHz, +/-10ppm; Manufacturer Part Number: 830108207209; Manufacturer: Wurth Elektronik; Frequency Stability: +/-20ppm; Load Capacitance: 8pF; ComponentLink1Description: Website Link; ComponentLink1URL: https://www.we-online.com/redexpert/article/830108207209?ad; ComponentLink2Description: Datasheet Link; ComponentLink2URL: https://www.we-online.com/redexpert/spec/830108207209?ad; Category: Crystals; Match Code: WE-XTAL; Mount: Surface Mount; Operating Temperature Max: 85°C; Operating Temperature Min: -40°C; Packaging: Tape and Reel; Case/Size Code: CFPX-180; Length: 3.4mm; Width: 2.7mm; Height: 0.8mm; Frequency: 20MHz; Frequency Tolerance: +/-10ppm
footprint WE-XTAL_CFPX-180
pins: 1 Crystal, 2 GND&Lid, 3 Crystal, 4 GND&Lid

## 830108207309
designator Y?, comment 24MHz  (value not drawn)
WE-XTAL Quartz Crystal, SMT, CFPX-180, 24MHz, +/-10ppm; Manufacturer Part Number: 830108207309; Manufacturer: Wurth Elektronik; Frequency Stability: +/-20ppm; Load Capacitance: 8pF; ComponentLink1Description: Website Link; ComponentLink1URL: https://www.we-online.com/redexpert/article/830108207309?ad; ComponentLink2Description: Datasheet Link; ComponentLink2URL: https://www.we-online.com/redexpert/spec/830108207309?ad; Category: Crystals; Match Code: WE-XTAL; Mount: Surface Mount; Operating Temperature Max: 85°C; Operating Temperature Min: -40°C; Packaging: Tape and Reel; Case/Size Code: CFPX-180; Length: 3.4mm; Width: 2.7mm; Height: 0.8mm; Frequency: 24MHz; Frequency Tolerance: +/-10ppm
footprint WE-XTAL_CFPX-180
pins: 1 Crystal, 2 GND&Lid, 3 Crystal, 4 GND&Lid

## 830108207409
designator Y?, comment 27MHz  (value not drawn)
WE-XTAL Quartz Crystal, SMT, CFPX-180, 27MHz, +/-10ppm; Manufacturer Part Number: 830108207409; Manufacturer: Wurth Elektronik; Frequency Stability: +/-20ppm; Load Capacitance: 8pF; ComponentLink1Description: Website Link; ComponentLink1URL: https://www.we-online.com/redexpert/article/830108207409?ad; ComponentLink2Description: Datasheet Link; ComponentLink2URL: https://www.we-online.com/redexpert/spec/830108207409?ad; Category: Crystals; Match Code: WE-XTAL; Mount: Surface Mount; Operating Temperature Max: 85°C; Operating Temperature Min: -40°C; Packaging: Tape and Reel; Case/Size Code: CFPX-180; Length: 3.4mm; Width: 2.7mm; Height: 0.8mm; Frequency: 27MHz; Frequency Tolerance: +/-10ppm
footprint WE-XTAL_CFPX-180
pins: 1 Crystal, 2 GND&Lid, 3 Crystal, 4 GND&Lid

## 830108207509
designator Y?, comment 30MHz  (value not drawn)
WE-XTAL Quartz Crystal, SMT, CFPX-180, 30MHz, +/-10ppm; Manufacturer Part Number: 830108207509; Manufacturer: Wurth Elektronik; Frequency Stability: +/-20ppm; Load Capacitance: 8pF; ComponentLink1Description: Website Link; ComponentLink1URL: https://www.we-online.com/redexpert/article/830108207509?ad; ComponentLink2Description: Datasheet Link; ComponentLink2URL: https://www.we-online.com/redexpert/spec/830108207509?ad; Category: Crystals; Match Code: WE-XTAL; Mount: Surface Mount; Operating Temperature Max: 85°C; Operating Temperature Min: -40°C; Packaging: Tape and Reel; Case/Size Code: CFPX-180; Length: 3.4mm; Width: 2.7mm; Height: 0.8mm; Frequency: 30MHz; Frequency Tolerance: +/-10ppm
footprint WE-XTAL_CFPX-180
pins: 1 Crystal, 2 GND&Lid, 3 Crystal, 4 GND&Lid

## 830108207609
designator Y?, comment 32MHz  (value not drawn)
WE-XTAL Quartz Crystal, SMT, CFPX-180, 32MHz, +/-10ppm; Manufacturer Part Number: 830108207609; Manufacturer: Wurth Elektronik; Frequency Stability: +/-20ppm; Load Capacitance: 8pF; ComponentLink1Description: Website Link; ComponentLink1URL: https://www.we-online.com/redexpert/article/830108207609?ad; ComponentLink2Description: Datasheet Link; ComponentLink2URL: https://www.we-online.com/redexpert/spec/830108207609?ad; Category: Crystals; Match Code: WE-XTAL; Mount: Surface Mount; Operating Temperature Max: 85°C; Operating Temperature Min: -40°C; Packaging: Tape and Reel; Case/Size Code: CFPX-180; Length: 3.4mm; Width: 2.7mm; Height: 0.8mm; Frequency: 32MHz; Frequency Tolerance: +/-10ppm
footprint WE-XTAL_CFPX-180
pins: 1 Crystal, 2 GND&Lid, 3 Crystal, 4 GND&Lid

## 830108207709
designator Y?, comment 40MHz  (value not drawn)
WE-XTAL Quartz Crystal, SMT, CFPX-180, 40MHz, +/-10ppm; Manufacturer Part Number: 830108207709; Manufacturer: Wurth Elektronik; Frequency Stability: +/-20ppm; Load Capacitance: 8pF; ComponentLink1Description: Website Link; ComponentLink1URL: https://www.we-online.com/redexpert/article/830108207709?ad; ComponentLink2Description: Datasheet Link; ComponentLink2URL: https://www.we-online.com/redexpert/spec/830108207709?ad; Category: Crystals; Match Code: WE-XTAL; Mount: Surface Mount; Operating Temperature Max: 85°C; Operating Temperature Min: -40°C; Packaging: Tape and Reel; Case/Size Code: CFPX-180; Length: 3.4mm; Width: 2.7mm; Height: 0.8mm; Frequency: 40MHz; Frequency Tolerance: +/-10ppm
footprint WE-XTAL_CFPX-180
pins: 1 Crystal, 2 GND&Lid, 3 Crystal, 4 GND&Lid

## 830108207809
designator Y?, comment 50MHz  (value not drawn)
WE-XTAL Quartz Crystal, SMT, CFPX-180, 50MHz, +/-10ppm; Manufacturer Part Number: 830108207809; Manufacturer: Wurth Elektronik; Frequency Stability: +/-20ppm; Load Capacitance: 8pF; ComponentLink1Description: Website Link; ComponentLink1URL: https://www.we-online.com/redexpert/article/830108207809?ad; ComponentLink2Description: Datasheet Link; ComponentLink2URL: https://www.we-online.com/redexpert/spec/830108207809?ad; Category: Crystals; Match Code: WE-XTAL; Mount: Surface Mount; Operating Temperature Max: 85°C; Operating Temperature Min: -40°C; Packaging: Tape and Reel; Case/Size Code: CFPX-180; Length: 3.4mm; Width: 2.7mm; Height: 0.8mm; Frequency: 50MHz; Frequency Tolerance: +/-10ppm
footprint WE-XTAL_CFPX-180
pins: 1 Crystal, 2 GND&Lid, 3 Crystal, 4 GND&Lid

## 830108208009
designator Y?, comment 19.2MHz  (value not drawn)
WE-XTAL Quartz Crystal, SMT, CFPX-218, 19.2MHz, +/-10ppm; Manufacturer Part Number: 830108208009; Manufacturer: Wurth Elektronik; Load Capacitance: 10pF; ComponentLink1Description: Website Link; ComponentLink1URL: https://www.we-online.com/redexpert/article/830108208009?ad; ComponentLink2Description: Datasheet Link; ComponentLink2URL: https://www.we-online.com/redexpert/spec/830108208009?ad; Category: Crystals; Match Code: WE-XTAL; Mount: Surface Mount; Operating Temperature Max: 70°C; Operating Temperature Min: -20°C; Packaging: Tape and Reel; Case/Size Code: CFPX-218; Length: 2.5mm; Width: 2mm; Height: 0.6mm; Frequency: 19.2MHz; Frequency Stability: +/-10ppm; Frequency Tolerance: +/-10ppm
footprint WE-XTAL_CFPX-218
pins: 1 Crystal, 2 GND, 3 Crystal, 4 GND

## 830108208109
designator Y?, comment 20MHz  (value not drawn)
WE-XTAL Quartz Crystal, SMT, CFPX-218, 20MHz, +/-10ppm; Manufacturer Part Number: 830108208109; Manufacturer: Wurth Elektronik; Load Capacitance: 10pF; ComponentLink1Description: Website Link; ComponentLink1URL: https://www.we-online.com/redexpert/article/830108208109?ad; ComponentLink2Description: Datasheet Link; ComponentLink2URL: https://www.we-online.com/redexpert/spec/830108208109?ad; Category: Crystals; Match Code: WE-XTAL; Mount: Surface Mount; Operating Temperature Max: 70°C; Operating Temperature Min: -20°C; Packaging: Tape and Reel; Case/Size Code: CFPX-218; Length: 2.5mm; Width: 2mm; Height: 0.6mm; Frequency: 20MHz; Frequency Stability: +/-10ppm; Frequency Tolerance: +/-10ppm
footprint WE-XTAL_CFPX-218
pins: 1 Crystal, 2 GND, 3 Crystal, 4 GND

## 830108208209
designator Y?, comment 24MHz  (value not drawn)
WE-XTAL Quartz Crystal, SMT, CFPX-218, 24MHz, +/-10ppm; Manufacturer Part Number: 830108208209; Manufacturer: Wurth Elektronik; Load Capacitance: 10pF; ComponentLink1Description: Website Link; ComponentLink1URL: https://www.we-online.com/redexpert/article/830108208209?ad; ComponentLink2Description: Datasheet Link; ComponentLink2URL: https://www.we-online.com/redexpert/spec/830108208209?ad; Category: Crystals; Match Code: WE-XTAL; Mount: Surface Mount; Operating Temperature Max: 70°C; Operating Temperature Min: -20°C; Packaging: Tape and Reel; Case/Size Code: CFPX-218; Length: 2.5mm; Width: 2mm; Height: 0.6mm; Frequency: 24MHz; Frequency Stability: +/-10ppm; Frequency Tolerance: +/-10ppm
footprint WE-XTAL_CFPX-218
pins: 1 Crystal, 2 GND, 3 Crystal, 4 GND

## 830108208409
designator Y?, comment 27MHz  (value not drawn)
WE-XTAL Quartz Crystal, SMT, CFPX-218, 27MHz, +/-10ppm; Manufacturer Part Number: 830108208409; Manufacturer: Wurth Elektronik; Load Capacitance: 10pF; ComponentLink1Description: Website Link; ComponentLink1URL: https://www.we-online.com/redexpert/article/830108208409?ad; ComponentLink2Description: Datasheet Link; ComponentLink2URL: https://www.we-online.com/redexpert/spec/830108208409?ad; Category: Crystals; Match Code: WE-XTAL; Mount: Surface Mount; Operating Temperature Max: 70°C; Operating Temperature Min: -20°C; Packaging: Tape and Reel; Case/Size Code: CFPX-218; Length: 2.5mm; Width: 2mm; Height: 0.6mm; Frequency: 27MHz; Frequency Stability: +/-10ppm; Frequency Tolerance: +/-10ppm
footprint WE-XTAL_CFPX-218
pins: 1 Crystal, 2 GND, 3 Crystal, 4 GND

## 830108208709
designator Y?, comment 40MHz  (value not drawn)
WE-XTAL Quartz Crystal, SMT, CFPX-218, 40MHz, +/-10ppm; Manufacturer Part Number: 830108208709; Manufacturer: Wurth Elektronik; Load Capacitance: 10pF; ComponentLink1Description: Website Link; ComponentLink1URL: https://www.we-online.com/redexpert/article/830108208709?ad; ComponentLink2Description: Datasheet Link; ComponentLink2URL: https://www.we-online.com/redexpert/spec/830108208709?ad; Category: Crystals; Match Code: WE-XTAL; Mount: Surface Mount; Operating Temperature Max: 70°C; Operating Temperature Min: -20°C; Packaging: Tape and Reel; Case/Size Code: CFPX-218; Length: 2.5mm; Width: 2mm; Height: 0.6mm; Frequency: 40MHz; Frequency Stability: +/-10ppm; Frequency Tolerance: +/-10ppm
footprint WE-XTAL_CFPX-218
pins: 1 Crystal, 2 GND, 3 Crystal, 4 GND

## 830108208809
designator Y?, comment 50MHz  (value not drawn)
WE-XTAL Quartz Crystal, SMT, CFPX-218, 50MHz, +/-10ppm; Manufacturer Part Number: 830108208809; Manufacturer: Wurth Elektronik; Load Capacitance: 10pF; ComponentLink1Description: Website Link; ComponentLink1URL: https://www.we-online.com/redexpert/article/830108208809?ad; ComponentLink2Description: Datasheet Link; ComponentLink2URL: https://www.we-online.com/redexpert/spec/830108208809?ad; Category: Crystals; Match Code: WE-XTAL; Mount: Surface Mount; Operating Temperature Max: 70°C; Operating Temperature Min: -20°C; Packaging: Tape and Reel; Case/Size Code: CFPX-218; Length: 2.5mm; Width: 2mm; Height: 0.6mm; Frequency: 50MHz; Frequency Stability: +/-10ppm; Frequency Tolerance: +/-10ppm
footprint WE-XTAL_CFPX-218
pins: 1 Crystal, 2 GND, 3 Crystal, 4 GND